# Altium schematic symbol library 1830596.SchLib: 1 symbol
Pins are listed as number, name and electrical type; pins without a type are passive.

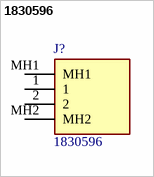
[diagram p0: symbol 1830596]

## 1830596
designator J?
MCV 1,5/ 2-GF-3,81 - PCB headers, nominal cross section: 1.5 mm<sup>2</sup>, color: green, nominal current: 8 A, rated voltage (III/2): 160 V, contact surface: Sn, contact connection type: Pin, number of potentials: 2, number of rows: 1, number of positions: 2, number of connections: 2, product range: MCV 1,5/..-GF, pitch: 3.81 mm, mounting: Wave soldering, pin layout: Linear pinning, solder pin [P]: 3.4 mm, number of solder pins per potential: 1, plug-in system: COMBICON MC 1,5, Pin connector pattern align; Manufacturer_Name: Phoenix Contact; Geometry.Height: 9.35mm; Mouser Part Number: 651-1830596; Mouser Price/Stock: https://www.mouser.co.uk/ProductDetail/Phoenix-Contact/1830596?qs=uD%2FdkN7XIa0aLQDWWSHivA%3D%3D; Manufacturer_Part_Number: 1830596; Datasheet Link: https://www.phoenixcontact.com/en-us/products/pcb-header-mcv-15-2-gf-381-1830596?type=pdf
footprint 1830596
pins: 1, 2, MH1, MH2